# EAGLE library part PIN_3_2_DEV (library blizzard_common_1)
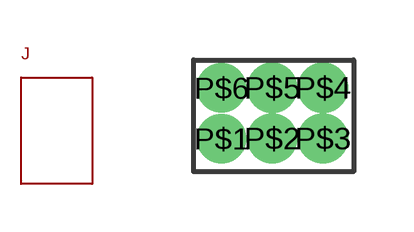
[diagram p2: symbol with the pads of PIN_3_2_PKG; footprint PIN_3_2_PKG]

Designator prefix J

## PIN_3_2_DEV  [PIN_3_2_PKG]
P$1  P$1
P$2  P$2
P$3  P$3
P$4  P$4
P$5  P$5
P$6  P$6

## Footprint PIN_3_2_PKG (pad centres in mm)
drill 0.73 pad 1: P$1 0,-1.27; P$6 0,0
drill 0.75 pad 1: P$2 1.27,-1.27; P$3 2.54,-1.27; P$4 2.54,0; P$5 1.27,0